# Altium schematic symbol library camera_board.SchLib: 4 symbols
Pins are listed as number, name and electrical type; pins without a type are passive.

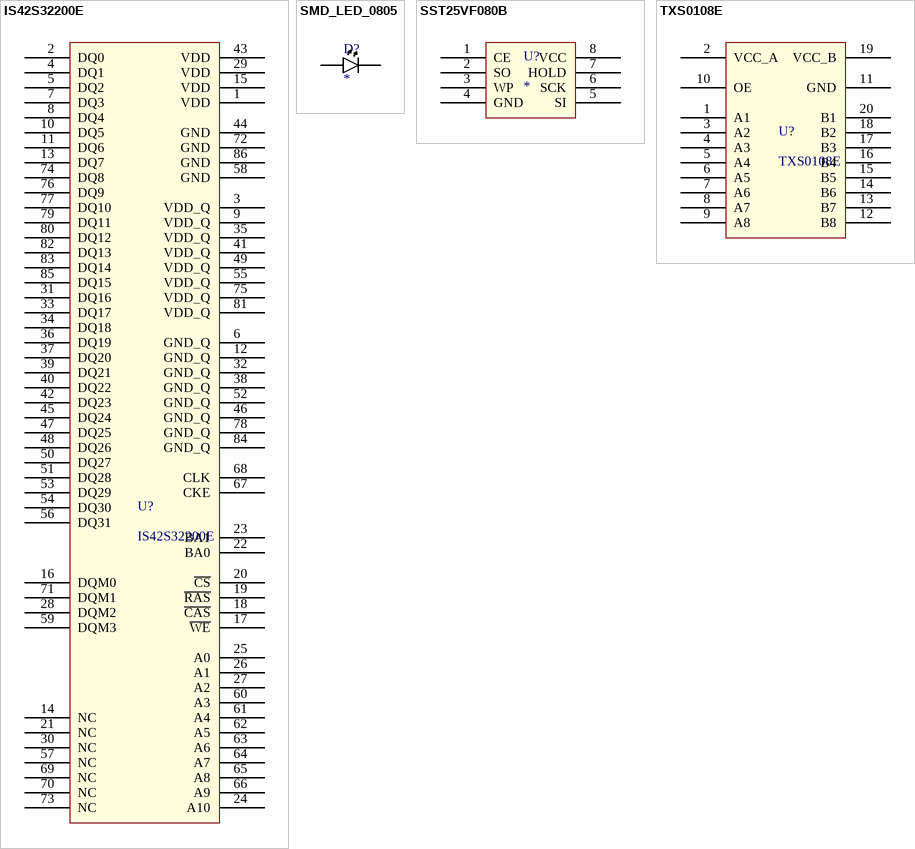
[diagram p0: symbols IS42S32200E to TXS0108E]

## IS42S32200E
designator U?
footprint TSSOP50P1175-86M (TSSOP, 86-Leads, Body 22.2x10.2mm, Pitch 0.5mm, IPC Low Density)
pins: 1 VDD, 2 DQ0, 3 VDD_Q, 4 DQ1, 5 DQ2, 6 GND_Q, 7 DQ3, 8 DQ4, 9 VDD_Q, 10 DQ5, 11 DQ6, 12 GND_Q, 13 DQ7, 14 NC, 15 VDD, 16 DQM0, 17 ~{WE}, 18 ~{CAS}, 19 ~{RAS}, 20 ~{CS}, 21 NC, 22 BA0, 23 BA1, 24 A10, 25 A0, 26 A1, 27 A2, 28 DQM2, 29 VDD, 30 NC, 31 DQ16, 32 GND_Q, 33 DQ17, 34 DQ18, 35 VDD_Q, 36 DQ19, 37 DQ20, 38 GND_Q, 39 DQ21, 40 DQ22, 41 VDD_Q, 42 DQ23, 43 VDD, 44 GND, 45 DQ24, 46 GND_Q, 47 DQ25, 48 DQ26, 49 VDD_Q, 50 DQ27, 51 DQ28, 52 GND_Q, 53 DQ29, 54 DQ30, 55 VDD_Q, 56 DQ31, 57 NC, 58 GND, 59 DQM3, 60 A3, 61 A4, 62 A5, 63 A6, 64 A7, 65 A8, 66 A9, 67 CKE, 68 CLK, 69 NC, 70 NC, 71 DQM1, 72 GND, 73 NC, 74 DQ8, 75 VDD_Q, 76 DQ9, 77 DQ10, 78 GND_Q, 79 DQ11, 80 DQ12, 81 VDD_Q, 82 DQ13, 83 DQ14, 84 GND_Q, 85 DQ15, 86 GND

## SMD_LED_0805
designator D?
footprint CD2012-0805 (Chip Diode; Body 2.0 x 1.3 mm (LxW typ))
pins: 1 A, 2 K

## SST25VF080B
designator U?
footprint SOIC127P600-8BM (SOIC, 8-Leads, Body 4.9x3.9mm, Pitch 1.27mm, IPC Low Density)
pins: 1 CE, 2 SO, 3 WP, 4 GND, 5 SI, 6 SCK, 7 HOLD, 8 VCC

## TXS0108E
designator U?
footprint TSOP65P640-20BM (TSOP, 20-Leads, Body 6.5x4.4mm, Pitch 0.65mm, IPC Low Density)
pins: 1 A1, 2 VCC_A, 3 A2, 4 A3, 5 A4, 6 A5, 7 A6, 8 A7, 9 A8, 10 OE, 11 GND, 12 B8, 13 B7, 14 B6, 15 B5, 16 B4, 17 B3, 18 B2, 19 VCC_B, 20 B1